# Altium schematic symbol library comm.SchLib: 4 symbols
Pins are listed as number, name and electrical type; pins without a type are passive.

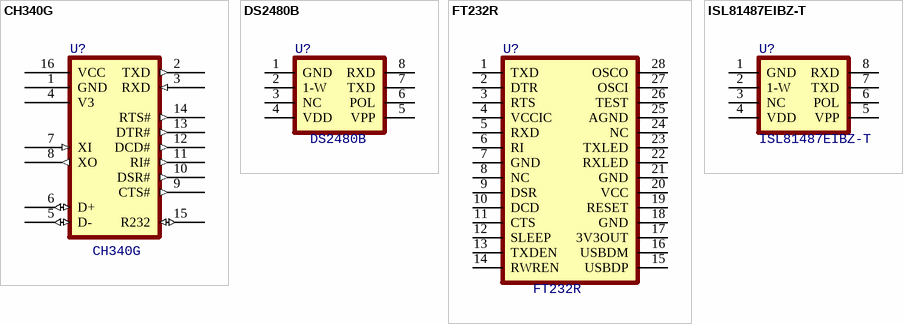
[diagram p0: symbols CH340G to ISL81487EIBZ-T]

## CH340G
designator U?
USB to serial converter
footprint _SOP_E150_16
pins: 1 GND, 2 TXD (out), 3 RXD (in), 4 V3, 5 D- (io), 6 D+ (io), 7 XI (in), 8 XO (out), 9 CTS# (out), 10 DSR# (out), 11 RI# (out), 12 DCD# (out), 13 DTR# (out), 14 RTS# (out), 15 R232 (io), 16 VCC

## DS2480B
designator U?
Serial to 1-Wire
footprint _SOP_E150_8
pins: 1 GND, 2 1-W, 3 NC, 4 VDD, 5 VPP, 6 POL, 7 TXD, 8 RXD

## FT232R
designator U?
USB to UART Converter
footprint _SSOP_E210_P0.65_28
pins: 1 TXD, 2 DTR, 3 RTS, 4 VCCIC, 5 RXD, 6 RI, 7 GND, 8 NC, 9 DSR, 10 DCD, 11 CTS, 12 SLEEP, 13 TXDEN, 14 RWREN, 15 USBDP, 16 USBDM, 17 3V3OUT, 18 GND, 19 RESET, 20 VCC, 21 GND, 22 RXLED, 23 TXLED, 24 NC, 25 AGND, 26 TEST, 27 OSCI, 28 OSCO

## ISL81487EIBZ-T
designator U?
RS485 receiver/transmiter
pins: 1 GND, 2 1-W, 3 NC, 4 VDD, 5 VPP, 6 POL, 7 TXD, 8 RXD